# EAGLE library part LMP2014 (library powerfilm)
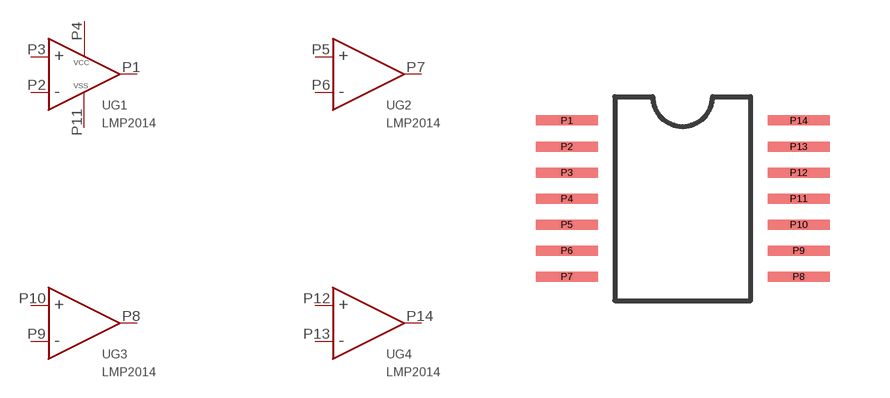
[diagram p8: symbol with the pads of TSSOP-14; footprint TSSOP-14]

Designator prefix U; gates G1=OPAMP G2=OPAMP_NP G3=OPAMP_NP G4=OPAMP_NP

## LMP2014 (DIGIKEY: LMP2014MT/NOPB-ND)  [TSSOP-14]
P1  G1:OUT
P2  G1:IN-
P3  G1:IN+
P4  G1:VCC
P5  G2:IN+
P6  G2:IN-
P7  G2:OUT
P8  G3:OUT
P9  G3:IN-
P10  G3:IN+
P11  G1:VSS
P12  G4:IN+
P13  G4:IN-
P14  G4:OUT

## Footprint TSSOP-14 (pad centres in mm)
smd 1.55 x 0.25: P1 -2.9,1.95; P2 -2.9,1.3; P3 -2.9,0.65; P4 -2.9,0; P5 -2.9,-0.65; P6 -2.9,-1.3; P7 -2.9,-1.95; P8 2.9,-1.95; P9 2.9,-1.3; P10 2.9,-0.65; P11 2.9,0; P12 2.9,0.65; P13 2.9,1.3; P14 2.9,1.95